# Altium integrated library CAP-CSGP_rev15b.intlib: 820 symbols (part 2 of 9)
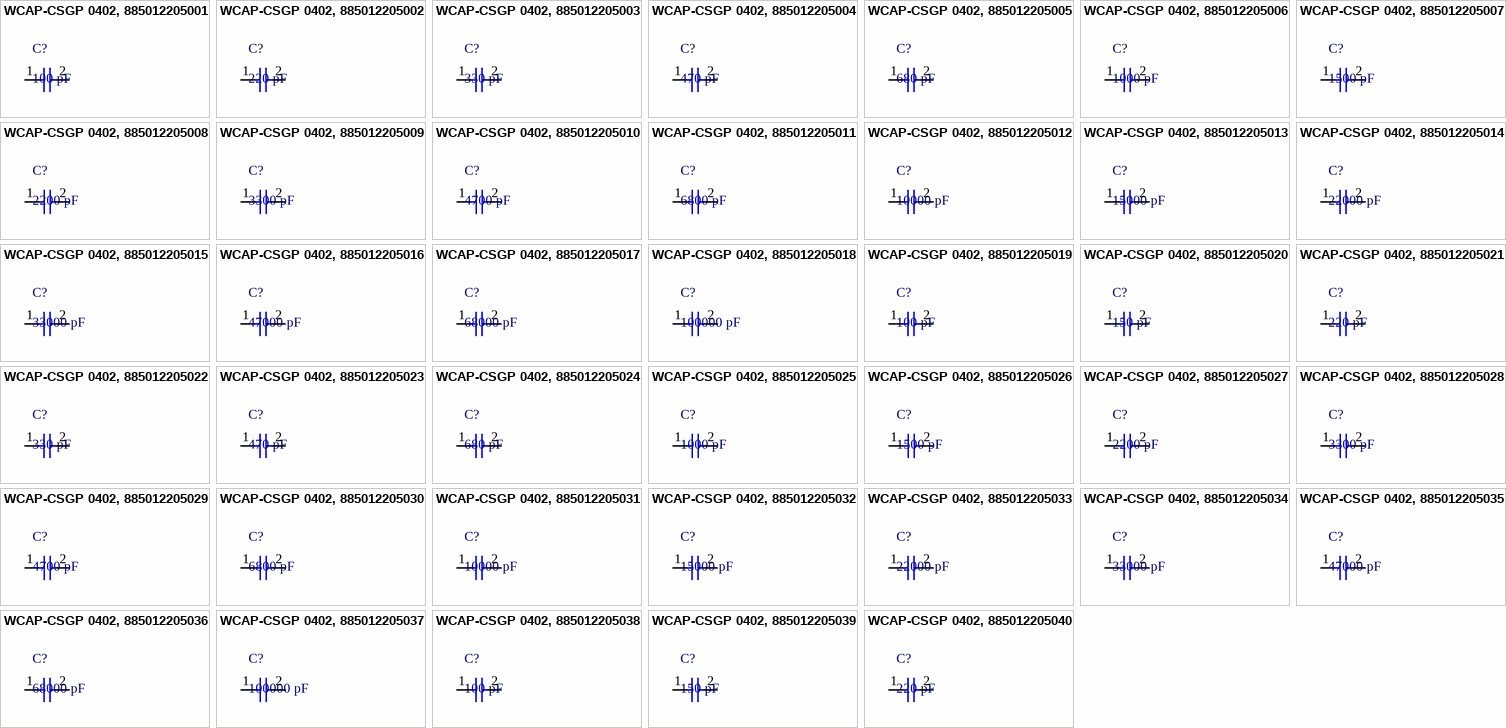
[diagram p29: symbols WCAP-CSGP 0402, 885012205001 to WCAP-CSGP 0402, 885012205040]

## WCAP-CSGP 0402, 885012205017
designator C?, comment 68000 pF
WCAP-CSGP MLCC, X7R, 0402, 68000 pF,10Vdc; Manufacturer: Wurth Elektronik; partNo: 885012205017; E-mail: libraries@we-online.com; ComponentLink1Description: Manufacturer; ComponentLink1URL: http://www.we-online.com; ComponentLink2Description: Datasheet; ComponentLink2URL: http://katalog.we-online.de/pbs/datasheet/885012205017.pdf; Created by: Karrer Zheng; Created Date: 3/9/2015; Capacitance: 68000 pF
footprint WCAP-CSGP 0402, H=0.5mm
pins: 1, 2

## WCAP-CSGP 0402, 885012205018
designator C?, comment 100000 pF
WCAP-CSGP MLCC, X7R, 0402, 100000 pF,10Vdc; Manufacturer: Wurth Elektronik; partNo: 885012205018; E-mail: libraries@we-online.com; ComponentLink1Description: Manufacturer; ComponentLink1URL: http://www.we-online.com; ComponentLink2Description: Datasheet; ComponentLink2URL: http://katalog.we-online.de/pbs/datasheet/885012205018.pdf; Created by: Karrer Zheng; Created Date: 3/9/2015; Capacitance: 100000 pF
footprint WCAP-CSGP 0402, H=0.5mm
pins: 1, 2

## WCAP-CSGP 0402, 885012205019
designator C?, comment 100 pF
WCAP-CSGP MLCC, X7R, 0402, 100 pF,16Vdc; Manufacturer: Wurth Elektronik; partNo: 885012205019; E-mail: libraries@we-online.com; ComponentLink1Description: Manufacturer; ComponentLink1URL: http://www.we-online.com; ComponentLink2Description: Datasheet; ComponentLink2URL: http://katalog.we-online.de/pbs/datasheet/885012205019.pdf; Created by: Karrer Zheng; Created Date: 3/9/2015; Capacitance: 100 pF
footprint WCAP-CSGP 0402, H=0.5mm
pins: 1, 2

## WCAP-CSGP 0402, 885012205020
designator C?, comment 150 pF
WCAP-CSGP MLCC, X7R, 0402, 150 pF,16Vdc; Manufacturer: Wurth Elektronik; partNo: 885012205020; E-mail: libraries@we-online.com; ComponentLink1Description: Manufacturer; ComponentLink1URL: http://www.we-online.com; ComponentLink2Description: Datasheet; ComponentLink2URL: http://katalog.we-online.de/pbs/datasheet/885012205020.pdf; Created by: Karrer Zheng; Created Date: 3/9/2015; Capacitance: 150 pF
footprint WCAP-CSGP 0402, H=0.5mm
pins: 1, 2

## WCAP-CSGP 0402, 885012205021
designator C?, comment 220 pF
WCAP-CSGP MLCC, X7R, 0402, 220 pF,16Vdc; Manufacturer: Wurth Elektronik; partNo: 885012205021; E-mail: libraries@we-online.com; ComponentLink1Description: Manufacturer; ComponentLink1URL: http://www.we-online.com; ComponentLink2Description: Datasheet; ComponentLink2URL: http://katalog.we-online.de/pbs/datasheet/885012205021.pdf; Created by: Karrer Zheng; Created Date: 3/9/2015; Capacitance: 220 pF
footprint WCAP-CSGP 0402, H=0.5mm
pins: 1, 2

## WCAP-CSGP 0402, 885012205022
designator C?, comment 330 pF
WCAP-CSGP MLCC, X7R, 0402, 330 pF,16Vdc; Manufacturer: Wurth Elektronik; partNo: 885012205022; E-mail: libraries@we-online.com; ComponentLink1Description: Manufacturer; ComponentLink1URL: http://www.we-online.com; ComponentLink2Description: Datasheet; ComponentLink2URL: http://katalog.we-online.de/pbs/datasheet/885012205022.pdf; Created by: Karrer Zheng; Created Date: 3/9/2015; Capacitance: 330 pF
footprint WCAP-CSGP 0402, H=0.5mm
pins: 1, 2

## WCAP-CSGP 0402, 885012205023
designator C?, comment 470 pF
WCAP-CSGP MLCC, X7R, 0402, 470 pF,16Vdc; Manufacturer: Wurth Elektronik; partNo: 885012205023; E-mail: libraries@we-online.com; ComponentLink1Description: Manufacturer; ComponentLink1URL: http://www.we-online.com; ComponentLink2Description: Datasheet; ComponentLink2URL: http://katalog.we-online.de/pbs/datasheet/885012205023.pdf; Created by: Karrer Zheng; Created Date: 3/9/2015; Capacitance: 470 pF
footprint WCAP-CSGP 0402, H=0.5mm
pins: 1, 2

## WCAP-CSGP 0402, 885012205024
designator C?, comment 680 pF
WCAP-CSGP MLCC, X7R, 0402, 680 pF,16Vdc; Manufacturer: Wurth Elektronik; partNo: 885012205024; E-mail: libraries@we-online.com; ComponentLink1Description: Manufacturer; ComponentLink1URL: http://www.we-online.com; ComponentLink2Description: Datasheet; ComponentLink2URL: http://katalog.we-online.de/pbs/datasheet/885012205024.pdf; Created by: Karrer Zheng; Created Date: 3/9/2015; Capacitance: 680 pF
footprint WCAP-CSGP 0402, H=0.5mm
pins: 1, 2

## WCAP-CSGP 0402, 885012205025
designator C?, comment 1000 pF
WCAP-CSGP MLCC, X7R, 0402, 1000 pF,16Vdc; Manufacturer: Wurth Elektronik; partNo: 885012205025; E-mail: libraries@we-online.com; ComponentLink1Description: Manufacturer; ComponentLink1URL: http://www.we-online.com; ComponentLink2Description: Datasheet; ComponentLink2URL: http://katalog.we-online.de/pbs/datasheet/885012205025.pdf; Created by: Karrer Zheng; Created Date: 3/9/2015; Capacitance: 1000 pF
footprint WCAP-CSGP 0402, H=0.5mm
pins: 1, 2

## WCAP-CSGP 0402, 885012205026
designator C?, comment 1500 pF
WCAP-CSGP MLCC, X7R, 0402, 1500 pF,16Vdc; Manufacturer: Wurth Elektronik; partNo: 885012205026; E-mail: libraries@we-online.com; ComponentLink1Description: Manufacturer; ComponentLink1URL: http://www.we-online.com; ComponentLink2Description: Datasheet; ComponentLink2URL: http://katalog.we-online.de/pbs/datasheet/885012205026.pdf; Created by: Karrer Zheng; Created Date: 3/9/2015; Capacitance: 1500 pF
footprint WCAP-CSGP 0402, H=0.5mm
pins: 1, 2

## WCAP-CSGP 0402, 885012205027
designator C?, comment 2200 pF
WCAP-CSGP MLCC, X7R, 0402, 2200 pF,16Vdc; Manufacturer: Wurth Elektronik; partNo: 885012205027; E-mail: libraries@we-online.com; ComponentLink1Description: Manufacturer; ComponentLink1URL: http://www.we-online.com; ComponentLink2Description: Datasheet; ComponentLink2URL: http://katalog.we-online.de/pbs/datasheet/885012205027.pdf; Created by: Karrer Zheng; Created Date: 3/9/2015; Capacitance: 2200 pF
footprint WCAP-CSGP 0402, H=0.5mm
pins: 1, 2

## WCAP-CSGP 0402, 885012205028
designator C?, comment 3300 pF
WCAP-CSGP MLCC, X7R, 0402, 3300 pF,16Vdc; Manufacturer: Wurth Elektronik; partNo: 885012205028; E-mail: libraries@we-online.com; ComponentLink1Description: Manufacturer; ComponentLink1URL: http://www.we-online.com; ComponentLink2Description: Datasheet; ComponentLink2URL: http://katalog.we-online.de/pbs/datasheet/885012205028.pdf; Created by: Karrer Zheng; Created Date: 3/9/2015; Capacitance: 3300 pF
footprint WCAP-CSGP 0402, H=0.5mm
pins: 1, 2

## WCAP-CSGP 0402, 885012205029
designator C?, comment 4700 pF
WCAP-CSGP MLCC, X7R, 0402, 4700 pF,16Vdc; Manufacturer: Wurth Elektronik; partNo: 885012205029; E-mail: libraries@we-online.com; ComponentLink1Description: Manufacturer; ComponentLink1URL: http://www.we-online.com; ComponentLink2Description: Datasheet; ComponentLink2URL: http://katalog.we-online.de/pbs/datasheet/885012205029.pdf; Created by: Karrer Zheng; Created Date: 3/9/2015; Capacitance: 4700 pF
footprint WCAP-CSGP 0402, H=0.5mm
pins: 1, 2

## WCAP-CSGP 0402, 885012205030
designator C?, comment 6800 pF
WCAP-CSGP MLCC, X7R, 0402, 6800 pF,16Vdc; Manufacturer: Wurth Elektronik; partNo: 885012205030; E-mail: libraries@we-online.com; ComponentLink1Description: Manufacturer; ComponentLink1URL: http://www.we-online.com; ComponentLink2Description: Datasheet; ComponentLink2URL: http://katalog.we-online.de/pbs/datasheet/885012205030.pdf; Created by: Karrer Zheng; Created Date: 3/9/2015; Capacitance: 6800 pF
footprint WCAP-CSGP 0402, H=0.5mm
pins: 1, 2

## WCAP-CSGP 0402, 885012205031
designator C?, comment 10000 pF
WCAP-CSGP MLCC, X7R, 0402, 10000 pF,16Vdc; Manufacturer: Wurth Elektronik; partNo: 885012205031; E-mail: libraries@we-online.com; ComponentLink1Description: Manufacturer; ComponentLink1URL: http://www.we-online.com; ComponentLink2Description: Datasheet; ComponentLink2URL: http://katalog.we-online.de/pbs/datasheet/885012205031.pdf; Created by: Karrer Zheng; Created Date: 3/9/2015; Capacitance: 10000 pF
footprint WCAP-CSGP 0402, H=0.5mm
pins: 1, 2

## WCAP-CSGP 0402, 885012205032
designator C?, comment 15000 pF
WCAP-CSGP MLCC, X7R, 0402, 15000 pF,16Vdc; Manufacturer: Wurth Elektronik; partNo: 885012205032; E-mail: libraries@we-online.com; ComponentLink1Description: Manufacturer; ComponentLink1URL: http://www.we-online.com; ComponentLink2Description: Datasheet; ComponentLink2URL: http://katalog.we-online.de/pbs/datasheet/885012205032.pdf; Created by: Karrer Zheng; Created Date: 3/9/2015; Capacitance: 15000 pF
footprint WCAP-CSGP 0402, H=0.5mm
pins: 1, 2

## WCAP-CSGP 0402, 885012205033
designator C?, comment 22000 pF
WCAP-CSGP MLCC, X7R, 0402, 22000 pF,16Vdc; Manufacturer: Wurth Elektronik; partNo: 885012205033; E-mail: libraries@we-online.com; ComponentLink1Description: Manufacturer; ComponentLink1URL: http://www.we-online.com; ComponentLink2Description: Datasheet; ComponentLink2URL: http://katalog.we-online.de/pbs/datasheet/885012205033.pdf; Created by: Karrer Zheng; Created Date: 3/9/2015; Capacitance: 22000 pF
footprint WCAP-CSGP 0402, H=0.5mm
pins: 1, 2

## WCAP-CSGP 0402, 885012205034
designator C?, comment 33000 pF
WCAP-CSGP MLCC, X7R, 0402, 33000 pF,16Vdc; Manufacturer: Wurth Elektronik; partNo: 885012205034; E-mail: libraries@we-online.com; ComponentLink1Description: Manufacturer; ComponentLink1URL: http://www.we-online.com; ComponentLink2Description: Datasheet; ComponentLink2URL: http://katalog.we-online.de/pbs/datasheet/885012205034.pdf; Created by: Karrer Zheng; Created Date: 3/9/2015; Capacitance: 33000 pF
footprint WCAP-CSGP 0402, H=0.5mm
pins: 1, 2

## WCAP-CSGP 0402, 885012205035
designator C?, comment 47000 pF
WCAP-CSGP MLCC, X7R, 0402, 47000 pF,16Vdc; Manufacturer: Wurth Elektronik; partNo: 885012205035; E-mail: libraries@we-online.com; ComponentLink1Description: Manufacturer; ComponentLink1URL: http://www.we-online.com; ComponentLink2Description: Datasheet; ComponentLink2URL: http://katalog.we-online.de/pbs/datasheet/885012205035.pdf; Created by: Karrer Zheng; Created Date: 3/9/2015; Capacitance: 47000 pF
footprint WCAP-CSGP 0402, H=0.5mm
pins: 1, 2

## WCAP-CSGP 0402, 885012205036
designator C?, comment 68000 pF
WCAP-CSGP MLCC, X7R, 0402, 68000 pF,16Vdc; Manufacturer: Wurth Elektronik; partNo: 885012205036; E-mail: libraries@we-online.com; ComponentLink1Description: Manufacturer; ComponentLink1URL: http://www.we-online.com; ComponentLink2Description: Datasheet; ComponentLink2URL: http://katalog.we-online.de/pbs/datasheet/885012205036.pdf; Created by: Karrer Zheng; Created Date: 3/9/2015; Capacitance: 68000 pF
footprint WCAP-CSGP 0402, H=0.5mm
pins: 1, 2

## WCAP-CSGP 0402, 885012205037
designator C?, comment 100000 pF
WCAP-CSGP MLCC, X7R, 0402, 100000 pF,16Vdc; Manufacturer: Wurth Elektronik; partNo: 885012205037; E-mail: libraries@we-online.com; ComponentLink1Description: Manufacturer; ComponentLink1URL: http://www.we-online.com; ComponentLink2Description: Datasheet; ComponentLink2URL: http://katalog.we-online.de/pbs/datasheet/885012205037.pdf; Created by: Karrer Zheng; Created Date: 3/9/2015; Capacitance: 100000 pF
footprint WCAP-CSGP 0402, H=0.5mm
pins: 1, 2

## WCAP-CSGP 0402, 885012205038
designator C?, comment 100 pF
WCAP-CSGP MLCC, X7R, 0402, 100 pF,25Vdc; Manufacturer: Wurth Elektronik; partNo: 885012205038; E-mail: libraries@we-online.com; ComponentLink1Description: Manufacturer; ComponentLink1URL: http://www.we-online.com; ComponentLink2Description: Datasheet; ComponentLink2URL: http://katalog.we-online.de/pbs/datasheet/885012205038.pdf; Created by: Karrer Zheng; Created Date: 3/9/2015; Capacitance: 100 pF
footprint WCAP-CSGP 0402, H=0.5mm
pins: 1, 2

## WCAP-CSGP 0402, 885012205039
designator C?, comment 150 pF
WCAP-CSGP MLCC, X7R, 0402, 150 pF,25Vdc; Manufacturer: Wurth Elektronik; partNo: 885012205039; E-mail: libraries@we-online.com; ComponentLink1Description: Manufacturer; ComponentLink1URL: http://www.we-online.com; ComponentLink2Description: Datasheet; ComponentLink2URL: http://katalog.we-online.de/pbs/datasheet/885012205039.pdf; Created by: Karrer Zheng; Created Date: 3/9/2015; Capacitance: 150 pF
footprint WCAP-CSGP 0402, H=0.5mm
pins: 1, 2

## WCAP-CSGP 0402, 885012205040
designator C?, comment 220 pF
WCAP-CSGP MLCC, X7R, 0402, 220 pF,25Vdc; Manufacturer: Wurth Elektronik; partNo: 885012205040; E-mail: libraries@we-online.com; ComponentLink1Description: Manufacturer; ComponentLink1URL: http://www.we-online.com; ComponentLink2Description: Datasheet; ComponentLink2URL: http://katalog.we-online.de/pbs/datasheet/885012205040.pdf; Created by: Karrer Zheng; Created Date: 3/9/2015; Capacitance: 220 pF
footprint WCAP-CSGP 0402, H=0.5mm
pins: 1, 2

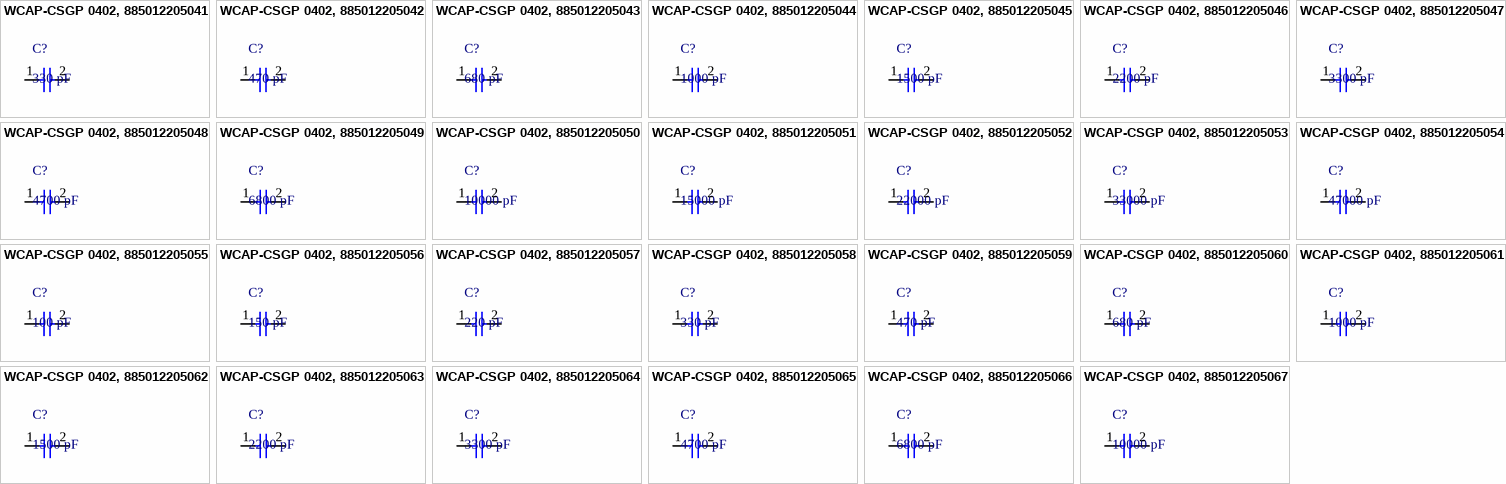
[diagram p4: symbols WCAP-CSGP 0402, 885012205041 to WCAP-CSGP 0402, 885012205067]

## WCAP-CSGP 0402, 885012205041
designator C?, comment 330 pF
WCAP-CSGP MLCC, X7R, 0402, 330 pF,25Vdc; Manufacturer: Wurth Elektronik; partNo: 885012205041; E-mail: libraries@we-online.com; ComponentLink1Description: Manufacturer; ComponentLink1URL: http://www.we-online.com; ComponentLink2Description: Datasheet; ComponentLink2URL: http://katalog.we-online.de/pbs/datasheet/885012205041.pdf; Created by: Karrer Zheng; Created Date: 3/9/2015; Capacitance: 330 pF
footprint WCAP-CSGP 0402, H=0.5mm
pins: 1, 2

## WCAP-CSGP 0402, 885012205042
designator C?, comment 470 pF
WCAP-CSGP MLCC, X7R, 0402, 470 pF,25Vdc; Manufacturer: Wurth Elektronik; partNo: 885012205042; E-mail: libraries@we-online.com; ComponentLink1Description: Manufacturer; ComponentLink1URL: http://www.we-online.com; ComponentLink2Description: Datasheet; ComponentLink2URL: http://katalog.we-online.de/pbs/datasheet/885012205042.pdf; Created by: Karrer Zheng; Created Date: 3/9/2015; Capacitance: 470 pF
footprint WCAP-CSGP 0402, H=0.5mm
pins: 1, 2

## WCAP-CSGP 0402, 885012205043
designator C?, comment 680 pF
WCAP-CSGP MLCC, X7R, 0402, 680 pF,25Vdc; Manufacturer: Wurth Elektronik; partNo: 885012205043; E-mail: libraries@we-online.com; ComponentLink1Description: Manufacturer; ComponentLink1URL: http://www.we-online.com; ComponentLink2Description: Datasheet; ComponentLink2URL: http://katalog.we-online.de/pbs/datasheet/885012205043.pdf; Created by: Karrer Zheng; Created Date: 3/9/2015; Capacitance: 680 pF
footprint WCAP-CSGP 0402, H=0.5mm
pins: 1, 2

## WCAP-CSGP 0402, 885012205044
designator C?, comment 1000 pF
WCAP-CSGP MLCC, X7R, 0402, 1000 pF,25Vdc; Manufacturer: Wurth Elektronik; partNo: 885012205044; E-mail: libraries@we-online.com; ComponentLink1Description: Manufacturer; ComponentLink1URL: http://www.we-online.com; ComponentLink2Description: Datasheet; ComponentLink2URL: http://katalog.we-online.de/pbs/datasheet/885012205044.pdf; Created by: Karrer Zheng; Created Date: 3/9/2015; Capacitance: 1000 pF
footprint WCAP-CSGP 0402, H=0.5mm
pins: 1, 2

## WCAP-CSGP 0402, 885012205045
designator C?, comment 1500 pF
WCAP-CSGP MLCC, X7R, 0402, 1500 pF,25Vdc; Manufacturer: Wurth Elektronik; partNo: 885012205045; E-mail: libraries@we-online.com; ComponentLink1Description: Manufacturer; ComponentLink1URL: http://www.we-online.com; ComponentLink2Description: Datasheet; ComponentLink2URL: http://katalog.we-online.de/pbs/datasheet/885012205045.pdf; Created by: Karrer Zheng; Created Date: 3/9/2015; Capacitance: 1500 pF
footprint WCAP-CSGP 0402, H=0.5mm
pins: 1, 2

## WCAP-CSGP 0402, 885012205046
designator C?, comment 2200 pF
WCAP-CSGP MLCC, X7R, 0402, 2200 pF,25Vdc; Manufacturer: Wurth Elektronik; partNo: 885012205046; E-mail: libraries@we-online.com; ComponentLink1Description: Manufacturer; ComponentLink1URL: http://www.we-online.com; ComponentLink2Description: Datasheet; ComponentLink2URL: http://katalog.we-online.de/pbs/datasheet/885012205046.pdf; Created by: Karrer Zheng; Created Date: 3/9/2015; Capacitance: 2200 pF
footprint WCAP-CSGP 0402, H=0.5mm
pins: 1, 2

## WCAP-CSGP 0402, 885012205047
designator C?, comment 3300 pF
WCAP-CSGP MLCC, X7R, 0402, 3300 pF,25Vdc; Manufacturer: Wurth Elektronik; partNo: 885012205047; E-mail: libraries@we-online.com; ComponentLink1Description: Manufacturer; ComponentLink1URL: http://www.we-online.com; ComponentLink2Description: Datasheet; ComponentLink2URL: http://katalog.we-online.de/pbs/datasheet/885012205047.pdf; Created by: Karrer Zheng; Created Date: 3/9/2015; Capacitance: 3300 pF
footprint WCAP-CSGP 0402, H=0.5mm
pins: 1, 2

## WCAP-CSGP 0402, 885012205048
designator C?, comment 4700 pF
WCAP-CSGP MLCC, X7R, 0402, 4700 pF,25Vdc; Manufacturer: Wurth Elektronik; partNo: 885012205048; E-mail: libraries@we-online.com; ComponentLink1Description: Manufacturer; ComponentLink1URL: http://www.we-online.com; ComponentLink2Description: Datasheet; ComponentLink2URL: http://katalog.we-online.de/pbs/datasheet/885012205048.pdf; Created by: Karrer Zheng; Created Date: 3/9/2015; Capacitance: 4700 pF
footprint WCAP-CSGP 0402, H=0.5mm
pins: 1, 2

## WCAP-CSGP 0402, 885012205049
designator C?, comment 6800 pF
WCAP-CSGP MLCC, X7R, 0402, 6800 pF,25Vdc; Manufacturer: Wurth Elektronik; partNo: 885012205049; E-mail: libraries@we-online.com; ComponentLink1Description: Manufacturer; ComponentLink1URL: http://www.we-online.com; ComponentLink2Description: Datasheet; ComponentLink2URL: http://katalog.we-online.de/pbs/datasheet/885012205049.pdf; Created by: Karrer Zheng; Created Date: 3/9/2015; Capacitance: 6800 pF
footprint WCAP-CSGP 0402, H=0.5mm
pins: 1, 2

## WCAP-CSGP 0402, 885012205050
designator C?, comment 10000 pF
WCAP-CSGP MLCC, X7R, 0402, 10000 pF,25Vdc; Manufacturer: Wurth Elektronik; partNo: 885012205050; E-mail: libraries@we-online.com; ComponentLink1Description: Manufacturer; ComponentLink1URL: http://www.we-online.com; ComponentLink2Description: Datasheet; ComponentLink2URL: http://katalog.we-online.de/pbs/datasheet/885012205050.pdf; Created by: Karrer Zheng; Created Date: 3/9/2015; Capacitance: 10000 pF
footprint WCAP-CSGP 0402, H=0.5mm
pins: 1, 2

## WCAP-CSGP 0402, 885012205051
designator C?, comment 15000 pF
WCAP-CSGP MLCC, X7R, 0402, 15000 pF,25Vdc; Manufacturer: Wurth Elektronik; partNo: 885012205051; E-mail: libraries@we-online.com; ComponentLink1Description: Manufacturer; ComponentLink1URL: http://www.we-online.com; ComponentLink2Description: Datasheet; ComponentLink2URL: http://katalog.we-online.de/pbs/datasheet/885012205051.pdf; Created by: Karrer Zheng; Created Date: 3/9/2015; Capacitance: 15000 pF
footprint WCAP-CSGP 0402, H=0.5mm
pins: 1, 2

## WCAP-CSGP 0402, 885012205052
designator C?, comment 22000 pF
WCAP-CSGP MLCC, X7R, 0402, 22000 pF,25Vdc; Manufacturer: Wurth Elektronik; partNo: 885012205052; E-mail: libraries@we-online.com; ComponentLink1Description: Manufacturer; ComponentLink1URL: http://www.we-online.com; ComponentLink2Description: Datasheet; ComponentLink2URL: http://katalog.we-online.de/pbs/datasheet/885012205052.pdf; Created by: Karrer Zheng; Created Date: 3/9/2015; Capacitance: 22000 pF
footprint WCAP-CSGP 0402, H=0.5mm
pins: 1, 2

## WCAP-CSGP 0402, 885012205053
designator C?, comment 33000 pF
WCAP-CSGP MLCC, X7R, 0402, 33000 pF,25Vdc; Manufacturer: Wurth Elektronik; partNo: 885012205053; E-mail: libraries@we-online.com; ComponentLink1Description: Manufacturer; ComponentLink1URL: http://www.we-online.com; ComponentLink2Description: Datasheet; ComponentLink2URL: http://katalog.we-online.de/pbs/datasheet/885012205053.pdf; Created by: Karrer Zheng; Created Date: 3/9/2015; Capacitance: 33000 pF
footprint WCAP-CSGP 0402, H=0.5mm
pins: 1, 2

## WCAP-CSGP 0402, 885012205054
designator C?, comment 47000 pF
WCAP-CSGP MLCC, X7R, 0402, 47000 pF,25Vdc; Manufacturer: Wurth Elektronik; partNo: 885012205054; E-mail: libraries@we-online.com; ComponentLink1Description: Manufacturer; ComponentLink1URL: http://www.we-online.com; ComponentLink2Description: Datasheet; ComponentLink2URL: http://katalog.we-online.de/pbs/datasheet/885012205054.pdf; Created by: Karrer Zheng; Created Date: 3/9/2015; Capacitance: 47000 pF
footprint WCAP-CSGP 0402, H=0.5mm
pins: 1, 2

## WCAP-CSGP 0402, 885012205055
designator C?, comment 100 pF
WCAP-CSGP MLCC, X7R, 0402, 100 pF,50Vdc; Manufacturer: Wurth Elektronik; partNo: 885012205055; E-mail: libraries@we-online.com; ComponentLink1Description: Manufacturer; ComponentLink1URL: http://www.we-online.com; ComponentLink2Description: Datasheet; ComponentLink2URL: http://katalog.we-online.de/pbs/datasheet/885012205055.pdf; Created by: Karrer Zheng; Created Date: 3/9/2015; Capacitance: 100 pF
footprint WCAP-CSGP 0402, H=0.5mm
pins: 1, 2

## WCAP-CSGP 0402, 885012205056
designator C?, comment 150 pF
WCAP-CSGP MLCC, X7R, 0402, 150 pF,50Vdc; Manufacturer: Wurth Elektronik; partNo: 885012205056; E-mail: libraries@we-online.com; ComponentLink1Description: Manufacturer; ComponentLink1URL: http://www.we-online.com; ComponentLink2Description: Datasheet; ComponentLink2URL: http://katalog.we-online.de/pbs/datasheet/885012205056.pdf; Created by: Karrer Zheng; Created Date: 3/9/2015; Capacitance: 150 pF
footprint WCAP-CSGP 0402, H=0.5mm
pins: 1, 2

## WCAP-CSGP 0402, 885012205057
designator C?, comment 220 pF
WCAP-CSGP MLCC, X7R, 0402, 220 pF,50Vdc; Manufacturer: Wurth Elektronik; partNo: 885012205057; E-mail: libraries@we-online.com; ComponentLink1Description: Manufacturer; ComponentLink1URL: http://www.we-online.com; ComponentLink2Description: Datasheet; ComponentLink2URL: http://katalog.we-online.de/pbs/datasheet/885012205057.pdf; Created by: Karrer Zheng; Created Date: 3/9/2015; Capacitance: 220 pF
footprint WCAP-CSGP 0402, H=0.5mm
pins: 1, 2

## WCAP-CSGP 0402, 885012205058
designator C?, comment 330 pF
WCAP-CSGP MLCC, X7R, 0402, 330 pF,50Vdc; Manufacturer: Wurth Elektronik; partNo: 885012205058; E-mail: libraries@we-online.com; ComponentLink1Description: Manufacturer; ComponentLink1URL: http://www.we-online.com; ComponentLink2Description: Datasheet; ComponentLink2URL: http://katalog.we-online.de/pbs/datasheet/885012205058.pdf; Created by: Karrer Zheng; Created Date: 3/9/2015; Capacitance: 330 pF
footprint WCAP-CSGP 0402, H=0.5mm
pins: 1, 2

## WCAP-CSGP 0402, 885012205059
designator C?, comment 470 pF
WCAP-CSGP MLCC, X7R, 0402, 470 pF,50Vdc; Manufacturer: Wurth Elektronik; partNo: 885012205059; E-mail: libraries@we-online.com; ComponentLink1Description: Manufacturer; ComponentLink1URL: http://www.we-online.com; ComponentLink2Description: Datasheet; ComponentLink2URL: http://katalog.we-online.de/pbs/datasheet/885012205059.pdf; Created by: Karrer Zheng; Created Date: 3/9/2015; Capacitance: 470 pF
footprint WCAP-CSGP 0402, H=0.5mm
pins: 1, 2

## WCAP-CSGP 0402, 885012205060
designator C?, comment 680 pF
WCAP-CSGP MLCC, X7R, 0402, 680 pF,50Vdc; Manufacturer: Wurth Elektronik; partNo: 885012205060; E-mail: libraries@we-online.com; ComponentLink1Description: Manufacturer; ComponentLink1URL: http://www.we-online.com; ComponentLink2Description: Datasheet; ComponentLink2URL: http://katalog.we-online.de/pbs/datasheet/885012205060.pdf; Created by: Karrer Zheng; Created Date: 3/9/2015; Capacitance: 680 pF
footprint WCAP-CSGP 0402, H=0.5mm
pins: 1, 2

## WCAP-CSGP 0402, 885012205061
designator C?, comment 1000 pF
WCAP-CSGP MLCC, X7R, 0402, 1000 pF,50Vdc; Manufacturer: Wurth Elektronik; partNo: 885012205061; E-mail: libraries@we-online.com; ComponentLink1Description: Manufacturer; ComponentLink1URL: http://www.we-online.com; ComponentLink2Description: Datasheet; ComponentLink2URL: http://katalog.we-online.de/pbs/datasheet/885012205061.pdf; Created by: Karrer Zheng; Created Date: 3/9/2015; Capacitance: 1000 pF
footprint WCAP-CSGP 0402, H=0.5mm
pins: 1, 2

## WCAP-CSGP 0402, 885012205062
designator C?, comment 1500 pF
WCAP-CSGP MLCC, X7R, 0402, 1500 pF,50Vdc; Manufacturer: Wurth Elektronik; partNo: 885012205062; E-mail: libraries@we-online.com; ComponentLink1Description: Manufacturer; ComponentLink1URL: http://www.we-online.com; ComponentLink2Description: Datasheet; ComponentLink2URL: http://katalog.we-online.de/pbs/datasheet/885012205062.pdf; Created by: Karrer Zheng; Created Date: 3/9/2015; Capacitance: 1500 pF
footprint WCAP-CSGP 0402, H=0.5mm
pins: 1, 2

## WCAP-CSGP 0402, 885012205063
designator C?, comment 2200 pF
WCAP-CSGP MLCC, X7R, 0402, 2200 pF,50Vdc; Manufacturer: Wurth Elektronik; partNo: 885012205063; E-mail: libraries@we-online.com; ComponentLink1Description: Manufacturer; ComponentLink1URL: http://www.we-online.com; ComponentLink2Description: Datasheet; ComponentLink2URL: http://katalog.we-online.de/pbs/datasheet/885012205063.pdf; Created by: Karrer Zheng; Created Date: 3/9/2015; Capacitance: 2200 pF
footprint WCAP-CSGP 0402, H=0.5mm
pins: 1, 2

## WCAP-CSGP 0402, 885012205064
designator C?, comment 3300 pF
WCAP-CSGP MLCC, X7R, 0402, 3300 pF,50Vdc; Manufacturer: Wurth Elektronik; partNo: 885012205064; E-mail: libraries@we-online.com; ComponentLink1Description: Manufacturer; ComponentLink1URL: http://www.we-online.com; ComponentLink2Description: Datasheet; ComponentLink2URL: http://katalog.we-online.de/pbs/datasheet/885012205064.pdf; Created by: Karrer Zheng; Created Date: 3/9/2015; Capacitance: 3300 pF
footprint WCAP-CSGP 0402, H=0.5mm
pins: 1, 2

## WCAP-CSGP 0402, 885012205065
designator C?, comment 4700 pF
WCAP-CSGP MLCC, X7R, 0402, 4700 pF,50Vdc; Manufacturer: Wurth Elektronik; partNo: 885012205065; E-mail: libraries@we-online.com; ComponentLink1Description: Manufacturer; ComponentLink1URL: http://www.we-online.com; ComponentLink2Description: Datasheet; ComponentLink2URL: http://katalog.we-online.de/pbs/datasheet/885012205065.pdf; Created by: Karrer Zheng; Created Date: 3/9/2015; Capacitance: 4700 pF
footprint WCAP-CSGP 0402, H=0.5mm
pins: 1, 2

## WCAP-CSGP 0402, 885012205066
designator C?, comment 6800 pF
WCAP-CSGP MLCC, X7R, 0402, 6800 pF,50Vdc; Manufacturer: Wurth Elektronik; partNo: 885012205066; E-mail: libraries@we-online.com; ComponentLink1Description: Manufacturer; ComponentLink1URL: http://www.we-online.com; ComponentLink2Description: Datasheet; ComponentLink2URL: http://katalog.we-online.de/pbs/datasheet/885012205066.pdf; Created by: Karrer Zheng; Created Date: 3/9/2015; Capacitance: 6800 pF
footprint WCAP-CSGP 0402, H=0.5mm
pins: 1, 2

## WCAP-CSGP 0402, 885012205067
designator C?, comment 10000 pF
WCAP-CSGP MLCC, X7R, 0402, 10000 pF,50Vdc; Manufacturer: Wurth Elektronik; partNo: 885012205067; E-mail: libraries@we-online.com; ComponentLink1Description: Manufacturer; ComponentLink1URL: http://www.we-online.com; ComponentLink2Description: Datasheet; ComponentLink2URL: http://katalog.we-online.de/pbs/datasheet/885012205067.pdf; Created by: Karrer Zheng; Created Date: 3/9/2015; Capacitance: 10000 pF
footprint WCAP-CSGP 0402, H=0.5mm
pins: 1, 2


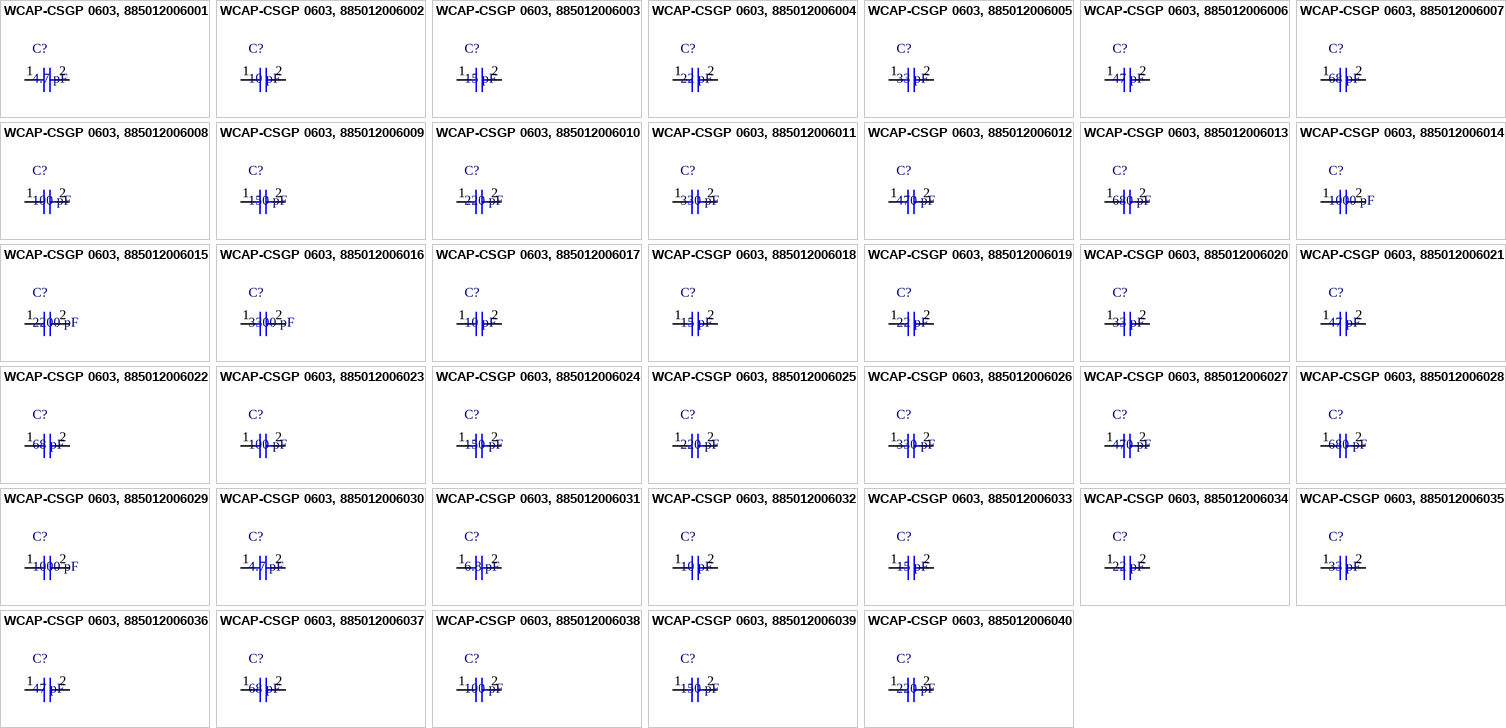
[diagram p5: symbols WCAP-CSGP 0603, 885012006001 to WCAP-CSGP 0603, 885012006040]

## WCAP-CSGP 0603, 885012006001
designator C?, comment 4.7 pF
WCAP-CSGP MLCC, NP0, 0603, 4.7 pF,10Vdc; Manufacturer: Wurth Elektronik; partNo: 885012006001; E-mail: libraries@we-online.com; ComponentLink1Description: Manufacturer; ComponentLink1URL: http://www.we-online.com; ComponentLink2Description: Datasheet; ComponentLink2URL: http://katalog.we-online.de/pbs/datasheet/885012006001.pdf; Created by: Karrer Zheng; Created Date: 3/9/2015; Capacitance: 4.7 pF
footprint WCAP-CSGP 0603, H=0.8mm
pins: 1, 2

## WCAP-CSGP 0603, 885012006002
designator C?, comment 10 pF
WCAP-CSGP MLCC, NP0, 0603, 10 pF,10Vdc; Manufacturer: Wurth Elektronik; partNo: 885012006002; E-mail: libraries@we-online.com; ComponentLink1Description: Manufacturer; ComponentLink1URL: http://www.we-online.com; ComponentLink2Description: Datasheet; ComponentLink2URL: http://katalog.we-online.de/pbs/datasheet/885012006002.pdf; Created by: Karrer Zheng; Created Date: 3/9/2015; Capacitance: 10 pF
footprint WCAP-CSGP 0603, H=0.8mm
pins: 1, 2

## WCAP-CSGP 0603, 885012006003
designator C?, comment 15 pF
WCAP-CSGP MLCC, NP0, 0603, 15 pF,10Vdc; Manufacturer: Wurth Elektronik; partNo: 885012006003; E-mail: libraries@we-online.com; ComponentLink1Description: Manufacturer; ComponentLink1URL: http://www.we-online.com; ComponentLink2Description: Datasheet; ComponentLink2URL: http://katalog.we-online.de/pbs/datasheet/885012006003.pdf; Created by: Karrer Zheng; Created Date: 3/9/2015; Capacitance: 15 pF
footprint WCAP-CSGP 0603, H=0.8mm
pins: 1, 2

## WCAP-CSGP 0603, 885012006004
designator C?, comment 22 pF
WCAP-CSGP MLCC, NP0, 0603, 22 pF,10Vdc; Manufacturer: Wurth Elektronik; partNo: 885012006004; E-mail: libraries@we-online.com; ComponentLink1Description: Manufacturer; ComponentLink1URL: http://www.we-online.com; ComponentLink2Description: Datasheet; ComponentLink2URL: http://katalog.we-online.de/pbs/datasheet/885012006004.pdf; Created by: Karrer Zheng; Created Date: 3/9/2015; Capacitance: 22 pF
footprint WCAP-CSGP 0603, H=0.8mm
pins: 1, 2

## WCAP-CSGP 0603, 885012006005
designator C?, comment 33 pF
WCAP-CSGP MLCC, NP0, 0603, 33 pF,10Vdc; Manufacturer: Wurth Elektronik; partNo: 885012006005; E-mail: libraries@we-online.com; ComponentLink1Description: Manufacturer; ComponentLink1URL: http://www.we-online.com; ComponentLink2Description: Datasheet; ComponentLink2URL: http://katalog.we-online.de/pbs/datasheet/885012006005.pdf; Created by: Karrer Zheng; Created Date: 3/9/2015; Capacitance: 33 pF
footprint WCAP-CSGP 0603, H=0.8mm
pins: 1, 2

## WCAP-CSGP 0603, 885012006006
designator C?, comment 47 pF
WCAP-CSGP MLCC, NP0, 0603, 47 pF,10Vdc; Manufacturer: Wurth Elektronik; partNo: 885012006006; E-mail: libraries@we-online.com; ComponentLink1Description: Manufacturer; ComponentLink1URL: http://www.we-online.com; ComponentLink2Description: Datasheet; ComponentLink2URL: http://katalog.we-online.de/pbs/datasheet/885012006006.pdf; Created by: Karrer Zheng; Created Date: 3/9/2015; Capacitance: 47 pF
footprint WCAP-CSGP 0603, H=0.8mm
pins: 1, 2

## WCAP-CSGP 0603, 885012006007
designator C?, comment 68 pF
WCAP-CSGP MLCC, NP0, 0603, 68 pF,10Vdc; Manufacturer: Wurth Elektronik; partNo: 885012006007; E-mail: libraries@we-online.com; ComponentLink1Description: Manufacturer; ComponentLink1URL: http://www.we-online.com; ComponentLink2Description: Datasheet; ComponentLink2URL: http://katalog.we-online.de/pbs/datasheet/885012006007.pdf; Created by: Karrer Zheng; Created Date: 3/9/2015; Capacitance: 68 pF
footprint WCAP-CSGP 0603, H=0.8mm
pins: 1, 2

## WCAP-CSGP 0603, 885012006008
designator C?, comment 100 pF
WCAP-CSGP MLCC, NP0, 0603, 100 pF,10Vdc; Manufacturer: Wurth Elektronik; partNo: 885012006008; E-mail: libraries@we-online.com; ComponentLink1Description: Manufacturer; ComponentLink1URL: http://www.we-online.com; ComponentLink2Description: Datasheet; ComponentLink2URL: http://katalog.we-online.de/pbs/datasheet/885012006008.pdf; Created by: Karrer Zheng; Created Date: 3/9/2015; Capacitance: 100 pF
footprint WCAP-CSGP 0603, H=0.8mm
pins: 1, 2

## WCAP-CSGP 0603, 885012006009
designator C?, comment 150 pF
WCAP-CSGP MLCC, NP0, 0603, 150 pF,10Vdc; Manufacturer: Wurth Elektronik; partNo: 885012006009; E-mail: libraries@we-online.com; ComponentLink1Description: Manufacturer; ComponentLink1URL: http://www.we-online.com; ComponentLink2Description: Datasheet; ComponentLink2URL: http://katalog.we-online.de/pbs/datasheet/885012006009.pdf; Created by: Karrer Zheng; Created Date: 3/9/2015; Capacitance: 150 pF
footprint WCAP-CSGP 0603, H=0.8mm
pins: 1, 2

## WCAP-CSGP 0603, 885012006010
designator C?, comment 220 pF
WCAP-CSGP MLCC, NP0, 0603, 220 pF,10Vdc; Manufacturer: Wurth Elektronik; partNo: 885012006010; E-mail: libraries@we-online.com; ComponentLink1Description: Manufacturer; ComponentLink1URL: http://www.we-online.com; ComponentLink2Description: Datasheet; ComponentLink2URL: http://katalog.we-online.de/pbs/datasheet/885012006010.pdf; Created by: Karrer Zheng; Created Date: 3/9/2015; Capacitance: 220 pF
footprint WCAP-CSGP 0603, H=0.8mm
pins: 1, 2

## WCAP-CSGP 0603, 885012006011
designator C?, comment 330 pF
WCAP-CSGP MLCC, NP0, 0603, 330 pF,10Vdc; Manufacturer: Wurth Elektronik; partNo: 885012006011; E-mail: libraries@we-online.com; ComponentLink1Description: Manufacturer; ComponentLink1URL: http://www.we-online.com; ComponentLink2Description: Datasheet; ComponentLink2URL: http://katalog.we-online.de/pbs/datasheet/885012006011.pdf; Created by: Karrer Zheng; Created Date: 3/9/2015; Capacitance: 330 pF
footprint WCAP-CSGP 0603, H=0.8mm
pins: 1, 2

## WCAP-CSGP 0603, 885012006012
designator C?, comment 470 pF
WCAP-CSGP MLCC, NP0, 0603, 470 pF,10Vdc; Manufacturer: Wurth Elektronik; partNo: 885012006012; E-mail: libraries@we-online.com; ComponentLink1Description: Manufacturer; ComponentLink1URL: http://www.we-online.com; ComponentLink2Description: Datasheet; ComponentLink2URL: http://katalog.we-online.de/pbs/datasheet/885012006012.pdf; Created by: Karrer Zheng; Created Date: 3/9/2015; Capacitance: 470 pF
footprint WCAP-CSGP 0603, H=0.8mm
pins: 1, 2

## WCAP-CSGP 0603, 885012006013
designator C?, comment 680 pF
WCAP-CSGP MLCC, NP0, 0603, 680 pF,10Vdc; Manufacturer: Wurth Elektronik; partNo: 885012006013; E-mail: libraries@we-online.com; ComponentLink1Description: Manufacturer; ComponentLink1URL: http://www.we-online.com; ComponentLink2Description: Datasheet; ComponentLink2URL: http://katalog.we-online.de/pbs/datasheet/885012006013.pdf; Created by: Karrer Zheng; Created Date: 3/9/2015; Capacitance: 680 pF
footprint WCAP-CSGP 0603, H=0.8mm
pins: 1, 2

## WCAP-CSGP 0603, 885012006014
designator C?, comment 1000 pF
WCAP-CSGP MLCC, NP0, 0603, 1000 pF,10Vdc; Manufacturer: Wurth Elektronik; partNo: 885012006014; E-mail: libraries@we-online.com; ComponentLink1Description: Manufacturer; ComponentLink1URL: http://www.we-online.com; ComponentLink2Description: Datasheet; ComponentLink2URL: http://katalog.we-online.de/pbs/datasheet/885012006014.pdf; Created by: Karrer Zheng; Created Date: 3/9/2015; Capacitance: 1000 pF
footprint WCAP-CSGP 0603, H=0.8mm
pins: 1, 2

## WCAP-CSGP 0603, 885012006015
designator C?, comment 2200 pF
WCAP-CSGP MLCC, NP0, 0603, 2200 pF,10Vdc; Manufacturer: Wurth Elektronik; partNo: 885012006015; E-mail: libraries@we-online.com; ComponentLink1Description: Manufacturer; ComponentLink1URL: http://www.we-online.com; ComponentLink2Description: Datasheet; ComponentLink2URL: http://katalog.we-online.de/pbs/datasheet/885012006015.pdf; Created by: Karrer Zheng; Created Date: 3/9/2015; Capacitance: 2200 pF
footprint WCAP-CSGP 0603, H=0.8mm
pins: 1, 2

## WCAP-CSGP 0603, 885012006016
designator C?, comment 3300 pF
WCAP-CSGP MLCC, NP0, 0603, 3300 pF,10Vdc; Manufacturer: Wurth Elektronik; partNo: 885012006016; E-mail: libraries@we-online.com; ComponentLink1Description: Manufacturer; ComponentLink1URL: http://www.we-online.com; ComponentLink2Description: Datasheet; ComponentLink2URL: http://katalog.we-online.de/pbs/datasheet/885012006016.pdf; Created by: Karrer Zheng; Created Date: 3/9/2015; Capacitance: 3300 pF
footprint WCAP-CSGP 0603, H=0.8mm
pins: 1, 2

## WCAP-CSGP 0603, 885012006017
designator C?, comment 10 pF
WCAP-CSGP MLCC, NP0, 0603, 10 pF,16Vdc; Manufacturer: Wurth Elektronik; partNo: 885012006017; E-mail: libraries@we-online.com; ComponentLink1Description: Manufacturer; ComponentLink1URL: http://www.we-online.com; ComponentLink2Description: Datasheet; ComponentLink2URL: http://katalog.we-online.de/pbs/datasheet/885012006017.pdf; Created by: Karrer Zheng; Created Date: 3/9/2015; Capacitance: 10 pF
footprint WCAP-CSGP 0603, H=0.8mm
pins: 1, 2

## WCAP-CSGP 0603, 885012006018
designator C?, comment 15 pF
WCAP-CSGP MLCC, NP0, 0603, 15 pF,16Vdc; Manufacturer: Wurth Elektronik; partNo: 885012006018; E-mail: libraries@we-online.com; ComponentLink1Description: Manufacturer; ComponentLink1URL: http://www.we-online.com; ComponentLink2Description: Datasheet; ComponentLink2URL: http://katalog.we-online.de/pbs/datasheet/885012006018.pdf; Created by: Karrer Zheng; Created Date: 3/9/2015; Capacitance: 15 pF
footprint WCAP-CSGP 0603, H=0.8mm
pins: 1, 2

## WCAP-CSGP 0603, 885012006019
designator C?, comment 22 pF
WCAP-CSGP MLCC, NP0, 0603, 22 pF,16Vdc; Manufacturer: Wurth Elektronik; partNo: 885012006019; E-mail: libraries@we-online.com; ComponentLink1Description: Manufacturer; ComponentLink1URL: http://www.we-online.com; ComponentLink2Description: Datasheet; ComponentLink2URL: http://katalog.we-online.de/pbs/datasheet/885012006019.pdf; Created by: Karrer Zheng; Created Date: 3/9/2015; Capacitance: 22 pF
footprint WCAP-CSGP 0603, H=0.8mm
pins: 1, 2

## WCAP-CSGP 0603, 885012006020
designator C?, comment 33 pF
WCAP-CSGP MLCC, NP0, 0603, 33 pF,16Vdc; Manufacturer: Wurth Elektronik; partNo: 885012006020; E-mail: libraries@we-online.com; ComponentLink1Description: Manufacturer; ComponentLink1URL: http://www.we-online.com; ComponentLink2Description: Datasheet; ComponentLink2URL: http://katalog.we-online.de/pbs/datasheet/885012006020.pdf; Created by: Karrer Zheng; Created Date: 3/9/2015; Capacitance: 33 pF
footprint WCAP-CSGP 0603, H=0.8mm
pins: 1, 2

## WCAP-CSGP 0603, 885012006021
designator C?, comment 47 pF
WCAP-CSGP MLCC, NP0, 0603, 47 pF,16Vdc; Manufacturer: Wurth Elektronik; partNo: 885012006021; E-mail: libraries@we-online.com; ComponentLink1Description: Manufacturer; ComponentLink1URL: http://www.we-online.com; ComponentLink2Description: Datasheet; ComponentLink2URL: http://katalog.we-online.de/pbs/datasheet/885012006021.pdf; Created by: Karrer Zheng; Created Date: 3/9/2015; Capacitance: 47 pF
footprint WCAP-CSGP 0603, H=0.8mm
pins: 1, 2

## WCAP-CSGP 0603, 885012006022
designator C?, comment 68 pF
WCAP-CSGP MLCC, NP0, 0603, 68 pF,16Vdc; Manufacturer: Wurth Elektronik; partNo: 885012006022; E-mail: libraries@we-online.com; ComponentLink1Description: Manufacturer; ComponentLink1URL: http://www.we-online.com; ComponentLink2Description: Datasheet; ComponentLink2URL: http://katalog.we-online.de/pbs/datasheet/885012006022.pdf; Created by: Karrer Zheng; Created Date: 3/9/2015; Capacitance: 68 pF
footprint WCAP-CSGP 0603, H=0.8mm
pins: 1, 2

## WCAP-CSGP 0603, 885012006023
designator C?, comment 100 pF
WCAP-CSGP MLCC, NP0, 0603, 100 pF,16Vdc; Manufacturer: Wurth Elektronik; partNo: 885012006023; E-mail: libraries@we-online.com; ComponentLink1Description: Manufacturer; ComponentLink1URL: http://www.we-online.com; ComponentLink2Description: Datasheet; ComponentLink2URL: http://katalog.we-online.de/pbs/datasheet/885012006023.pdf; Created by: Karrer Zheng; Created Date: 3/9/2015; Capacitance: 100 pF
footprint WCAP-CSGP 0603, H=0.8mm
pins: 1, 2

## WCAP-CSGP 0603, 885012006024
designator C?, comment 150 pF
WCAP-CSGP MLCC, NP0, 0603, 150 pF,16Vdc; Manufacturer: Wurth Elektronik; partNo: 885012006024; E-mail: libraries@we-online.com; ComponentLink1Description: Manufacturer; ComponentLink1URL: http://www.we-online.com; ComponentLink2Description: Datasheet; ComponentLink2URL: http://katalog.we-online.de/pbs/datasheet/885012006024.pdf; Created by: Karrer Zheng; Created Date: 3/9/2015; Capacitance: 150 pF
footprint WCAP-CSGP 0603, H=0.8mm
pins: 1, 2

## WCAP-CSGP 0603, 885012006025
designator C?, comment 220 pF
WCAP-CSGP MLCC, NP0, 0603, 220 pF,16Vdc; Manufacturer: Wurth Elektronik; partNo: 885012006025; E-mail: libraries@we-online.com; ComponentLink1Description: Manufacturer; ComponentLink1URL: http://www.we-online.com; ComponentLink2Description: Datasheet; ComponentLink2URL: http://katalog.we-online.de/pbs/datasheet/885012006025.pdf; Created by: Karrer Zheng; Created Date: 3/9/2015; Capacitance: 220 pF
footprint WCAP-CSGP 0603, H=0.8mm
pins: 1, 2

## WCAP-CSGP 0603, 885012006026
designator C?, comment 330 pF
WCAP-CSGP MLCC, NP0, 0603, 330 pF,16Vdc; Manufacturer: Wurth Elektronik; partNo: 885012006026; E-mail: libraries@we-online.com; ComponentLink1Description: Manufacturer; ComponentLink1URL: http://www.we-online.com; ComponentLink2Description: Datasheet; ComponentLink2URL: http://katalog.we-online.de/pbs/datasheet/885012006026.pdf; Created by: Karrer Zheng; Created Date: 3/9/2015; Capacitance: 330 pF
footprint WCAP-CSGP 0603, H=0.8mm
pins: 1, 2

## WCAP-CSGP 0603, 885012006027
designator C?, comment 470 pF
WCAP-CSGP MLCC, NP0, 0603, 470 pF,16Vdc; Manufacturer: Wurth Elektronik; partNo: 885012006027; E-mail: libraries@we-online.com; ComponentLink1Description: Manufacturer; ComponentLink1URL: http://www.we-online.com; ComponentLink2Description: Datasheet; ComponentLink2URL: http://katalog.we-online.de/pbs/datasheet/885012006027.pdf; Created by: Karrer Zheng; Created Date: 3/9/2015; Capacitance: 470 pF
footprint WCAP-CSGP 0603, H=0.8mm
pins: 1, 2

## WCAP-CSGP 0603, 885012006028
designator C?, comment 680 pF
WCAP-CSGP MLCC, NP0, 0603, 680 pF,16Vdc; Manufacturer: Wurth Elektronik; partNo: 885012006028; E-mail: libraries@we-online.com; ComponentLink1Description: Manufacturer; ComponentLink1URL: http://www.we-online.com; ComponentLink2Description: Datasheet; ComponentLink2URL: http://katalog.we-online.de/pbs/datasheet/885012006028.pdf; Created by: Karrer Zheng; Created Date: 3/9/2015; Capacitance: 680 pF
footprint WCAP-CSGP 0603, H=0.8mm
pins: 1, 2

## WCAP-CSGP 0603, 885012006029
designator C?, comment 1000 pF
WCAP-CSGP MLCC, NP0, 0603, 1000 pF,16Vdc; Manufacturer: Wurth Elektronik; partNo: 885012006029; E-mail: libraries@we-online.com; ComponentLink1Description: Manufacturer; ComponentLink1URL: http://www.we-online.com; ComponentLink2Description: Datasheet; ComponentLink2URL: http://katalog.we-online.de/pbs/datasheet/885012006029.pdf; Created by: Karrer Zheng; Created Date: 3/9/2015; Capacitance: 1000 pF
footprint WCAP-CSGP 0603, H=0.8mm
pins: 1, 2

## WCAP-CSGP 0603, 885012006030
designator C?, comment 4.7 pF
WCAP-CSGP MLCC, NP0, 0603, 4.7 pF,25Vdc; Manufacturer: Wurth Elektronik; partNo: 885012006030; E-mail: libraries@we-online.com; ComponentLink1Description: Manufacturer; ComponentLink1URL: http://www.we-online.com; ComponentLink2Description: Datasheet; ComponentLink2URL: http://katalog.we-online.de/pbs/datasheet/885012006030.pdf; Created by: Karrer Zheng; Created Date: 3/9/2015; Capacitance: 4.7 pF
footprint WCAP-CSGP 0603, H=0.8mm
pins: 1, 2

## WCAP-CSGP 0603, 885012006031
designator C?, comment 6.8 pF
WCAP-CSGP MLCC, NP0, 0603, 6.8 pF,25Vdc; Manufacturer: Wurth Elektronik; partNo: 885012006031; E-mail: libraries@we-online.com; ComponentLink1Description: Manufacturer; ComponentLink1URL: http://www.we-online.com; ComponentLink2Description: Datasheet; ComponentLink2URL: http://katalog.we-online.de/pbs/datasheet/885012006031.pdf; Created by: Karrer Zheng; Created Date: 3/9/2015; Capacitance: 6.8 pF
footprint WCAP-CSGP 0603, H=0.8mm
pins: 1, 2

## WCAP-CSGP 0603, 885012006032
designator C?, comment 10 pF
WCAP-CSGP MLCC, NP0, 0603, 10 pF,25Vdc; Manufacturer: Wurth Elektronik; partNo: 885012006032; E-mail: libraries@we-online.com; ComponentLink1Description: Manufacturer; ComponentLink1URL: http://www.we-online.com; ComponentLink2Description: Datasheet; ComponentLink2URL: http://katalog.we-online.de/pbs/datasheet/885012006032.pdf; Created by: Karrer Zheng; Created Date: 3/9/2015; Capacitance: 10 pF
footprint WCAP-CSGP 0603, H=0.8mm
pins: 1, 2

## WCAP-CSGP 0603, 885012006033
designator C?, comment 15 pF
WCAP-CSGP MLCC, NP0, 0603, 15 pF,25Vdc; Manufacturer: Wurth Elektronik; partNo: 885012006033; E-mail: libraries@we-online.com; ComponentLink1Description: Manufacturer; ComponentLink1URL: http://www.we-online.com; ComponentLink2Description: Datasheet; ComponentLink2URL: http://katalog.we-online.de/pbs/datasheet/885012006033.pdf; Created by: Karrer Zheng; Created Date: 3/9/2015; Capacitance: 15 pF
footprint WCAP-CSGP 0603, H=0.8mm
pins: 1, 2

## WCAP-CSGP 0603, 885012006034
designator C?, comment 22 pF
WCAP-CSGP MLCC, NP0, 0603, 22 pF,25Vdc; Manufacturer: Wurth Elektronik; partNo: 885012006034; E-mail: libraries@we-online.com; ComponentLink1Description: Manufacturer; ComponentLink1URL: http://www.we-online.com; ComponentLink2Description: Datasheet; ComponentLink2URL: http://katalog.we-online.de/pbs/datasheet/885012006034.pdf; Created by: Karrer Zheng; Created Date: 3/9/2015; Capacitance: 22 pF
footprint WCAP-CSGP 0603, H=0.8mm
pins: 1, 2

## WCAP-CSGP 0603, 885012006035
designator C?, comment 33 pF
WCAP-CSGP MLCC, NP0, 0603, 33 pF,25Vdc; Manufacturer: Wurth Elektronik; partNo: 885012006035; E-mail: libraries@we-online.com; ComponentLink1Description: Manufacturer; ComponentLink1URL: http://www.we-online.com; ComponentLink2Description: Datasheet; ComponentLink2URL: http://katalog.we-online.de/pbs/datasheet/885012006035.pdf; Created by: Karrer Zheng; Created Date: 3/9/2015; Capacitance: 33 pF
footprint WCAP-CSGP 0603, H=0.8mm
pins: 1, 2

## WCAP-CSGP 0603, 885012006036
designator C?, comment 47 pF
WCAP-CSGP MLCC, NP0, 0603, 47 pF,25Vdc; Manufacturer: Wurth Elektronik; partNo: 885012006036; E-mail: libraries@we-online.com; ComponentLink1Description: Manufacturer; ComponentLink1URL: http://www.we-online.com; ComponentLink2Description: Datasheet; ComponentLink2URL: http://katalog.we-online.de/pbs/datasheet/885012006036.pdf; Created by: Karrer Zheng; Created Date: 3/9/2015; Capacitance: 47 pF
footprint WCAP-CSGP 0603, H=0.8mm
pins: 1, 2

## WCAP-CSGP 0603, 885012006037
designator C?, comment 68 pF
WCAP-CSGP MLCC, NP0, 0603, 68 pF,25Vdc; Manufacturer: Wurth Elektronik; partNo: 885012006037; E-mail: libraries@we-online.com; ComponentLink1Description: Manufacturer; ComponentLink1URL: http://www.we-online.com; ComponentLink2Description: Datasheet; ComponentLink2URL: http://katalog.we-online.de/pbs/datasheet/885012006037.pdf; Created by: Karrer Zheng; Created Date: 3/9/2015; Capacitance: 68 pF
footprint WCAP-CSGP 0603, H=0.8mm
pins: 1, 2

## WCAP-CSGP 0603, 885012006038
designator C?, comment 100 pF
WCAP-CSGP MLCC, NP0, 0603, 100 pF,25Vdc; Manufacturer: Wurth Elektronik; partNo: 885012006038; E-mail: libraries@we-online.com; ComponentLink1Description: Manufacturer; ComponentLink1URL: http://www.we-online.com; ComponentLink2Description: Datasheet; ComponentLink2URL: http://katalog.we-online.de/pbs/datasheet/885012006038.pdf; Created by: Karrer Zheng; Created Date: 3/9/2015; Capacitance: 100 pF
footprint WCAP-CSGP 0603, H=0.8mm
pins: 1, 2

## WCAP-CSGP 0603, 885012006039
designator C?, comment 150 pF
WCAP-CSGP MLCC, NP0, 0603, 150 pF,25Vdc; Manufacturer: Wurth Elektronik; partNo: 885012006039; E-mail: libraries@we-online.com; ComponentLink1Description: Manufacturer; ComponentLink1URL: http://www.we-online.com; ComponentLink2Description: Datasheet; ComponentLink2URL: http://katalog.we-online.de/pbs/datasheet/885012006039.pdf; Created by: Karrer Zheng; Created Date: 3/9/2015; Capacitance: 150 pF
footprint WCAP-CSGP 0603, H=0.8mm
pins: 1, 2

## WCAP-CSGP 0603, 885012006040
designator C?, comment 220 pF
WCAP-CSGP MLCC, NP0, 0603, 220 pF,25Vdc; Manufacturer: Wurth Elektronik; partNo: 885012006040; E-mail: libraries@we-online.com; ComponentLink1Description: Manufacturer; ComponentLink1URL: http://www.we-online.com; ComponentLink2Description: Datasheet; ComponentLink2URL: http://katalog.we-online.de/pbs/datasheet/885012006040.pdf; Created by: Karrer Zheng; Created Date: 3/9/2015; Capacitance: 220 pF
footprint WCAP-CSGP 0603, H=0.8mm
pins: 1, 2

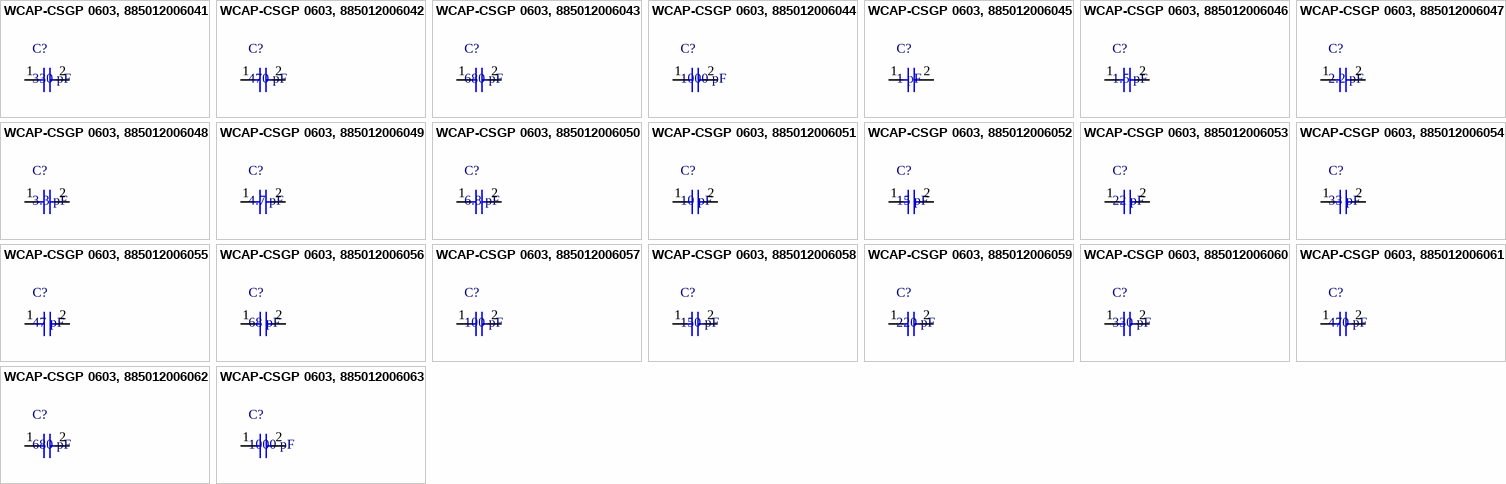
[diagram p6: symbols WCAP-CSGP 0603, 885012006041 to WCAP-CSGP 0603, 885012006063]

## WCAP-CSGP 0603, 885012006041
designator C?, comment 330 pF
WCAP-CSGP MLCC, NP0, 0603, 330 pF,25Vdc; Manufacturer: Wurth Elektronik; partNo: 885012006041; E-mail: libraries@we-online.com; ComponentLink1Description: Manufacturer; ComponentLink1URL: http://www.we-online.com; ComponentLink2Description: Datasheet; ComponentLink2URL: http://katalog.we-online.de/pbs/datasheet/885012006041.pdf; Created by: Karrer Zheng; Created Date: 3/9/2015; Capacitance: 330 pF
footprint WCAP-CSGP 0603, H=0.8mm
pins: 1, 2

## WCAP-CSGP 0603, 885012006042
designator C?, comment 470 pF
WCAP-CSGP MLCC, NP0, 0603, 470 pF,25Vdc; Manufacturer: Wurth Elektronik; partNo: 885012006042; E-mail: libraries@we-online.com; ComponentLink1Description: Manufacturer; ComponentLink1URL: http://www.we-online.com; ComponentLink2Description: Datasheet; ComponentLink2URL: http://katalog.we-online.de/pbs/datasheet/885012006042.pdf; Created by: Karrer Zheng; Created Date: 3/9/2015; Capacitance: 470 pF
footprint WCAP-CSGP 0603, H=0.8mm
pins: 1, 2

## WCAP-CSGP 0603, 885012006043
designator C?, comment 680 pF
WCAP-CSGP MLCC, NP0, 0603, 680 pF,25Vdc; Manufacturer: Wurth Elektronik; partNo: 885012006043; E-mail: libraries@we-online.com; ComponentLink1Description: Manufacturer; ComponentLink1URL: http://www.we-online.com; ComponentLink2Description: Datasheet; ComponentLink2URL: http://katalog.we-online.de/pbs/datasheet/885012006043.pdf; Created by: Karrer Zheng; Created Date: 3/9/2015; Capacitance: 680 pF
footprint WCAP-CSGP 0603, H=0.8mm
pins: 1, 2

## WCAP-CSGP 0603, 885012006044
designator C?, comment 1000 pF
WCAP-CSGP MLCC, NP0, 0603, 1000 pF,25Vdc; Manufacturer: Wurth Elektronik; partNo: 885012006044; E-mail: libraries@we-online.com; ComponentLink1Description: Manufacturer; ComponentLink1URL: http://www.we-online.com; ComponentLink2Description: Datasheet; ComponentLink2URL: http://katalog.we-online.de/pbs/datasheet/885012006044.pdf; Created by: Karrer Zheng; Created Date: 3/9/2015; Capacitance: 1000 pF
footprint WCAP-CSGP 0603, H=0.8mm
pins: 1, 2

## WCAP-CSGP 0603, 885012006045
designator C?, comment 1 pF
WCAP-CSGP MLCC, NP0, 0603, 1 pF,50Vdc; Manufacturer: Wurth Elektronik; partNo: 885012006045; E-mail: libraries@we-online.com; ComponentLink1Description: Manufacturer; ComponentLink1URL: http://www.we-online.com; ComponentLink2Description: Datasheet; ComponentLink2URL: http://katalog.we-online.de/pbs/datasheet/885012006045.pdf; Created by: Karrer Zheng; Created Date: 3/9/2015; Capacitance: 1 pF
footprint WCAP-CSGP 0603, H=0.8mm
pins: 1, 2

## WCAP-CSGP 0603, 885012006046
designator C?, comment 1.5 pF
WCAP-CSGP MLCC, NP0, 0603, 1.5 pF,50Vdc; Manufacturer: Wurth Elektronik; partNo: 885012006046; E-mail: libraries@we-online.com; ComponentLink1Description: Manufacturer; ComponentLink1URL: http://www.we-online.com; ComponentLink2Description: Datasheet; ComponentLink2URL: http://katalog.we-online.de/pbs/datasheet/885012006046.pdf; Created by: Karrer Zheng; Created Date: 3/9/2015; Capacitance: 1.5 pF
footprint WCAP-CSGP 0603, H=0.8mm
pins: 1, 2